# EAGLE library part MMA7660 (library video)
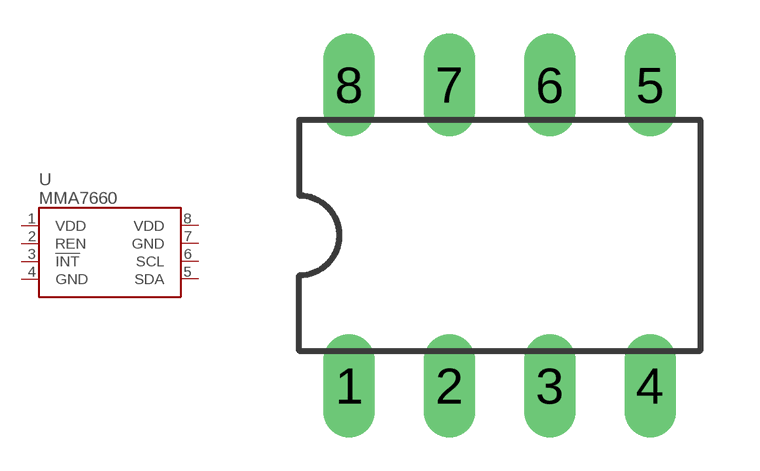
[diagram p0: symbol with the pads of DIL08; footprint DIL08]

Designator prefix -

## MMA7660  [DIL08]
1  VDD  pwr
2  REN
3  !INT
4  GND  pwr
5  SDA
6  SCL
7  GND  pwr
8  VDD  pwr

## Footprint DIL08 (pad centres in mm)
Dual In Line Package
drill 0.8 long: 1 -3.81,-3.81; 2 -1.27,-3.81; 3 1.27,-3.81; 4 3.81,-3.81; 5 3.81,3.81; 6 1.27,3.81; 7 -1.27,3.81; 8 -3.81,3.81